# Altium schematic symbol library NodoWifi.SchLib: 3 symbols
Pins are listed as number, name and electrical type; pins without a type are passive.

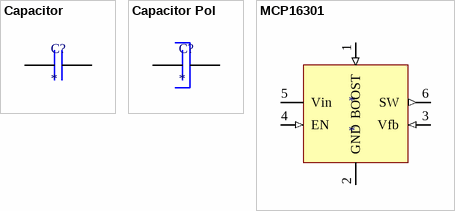
[diagram p0: symbols Capacitor to MCP16301]

## Capacitor
designator C?
Ceramic capacitor
pins: 1, 2

## Capacitor Pol
designator C?
Electrolitic Capacitor
pins: 1 (power), 2 (power)

## MCP16301
designator *
High-Voltage Input Integrated Switch Step-Down Regulator
pins: 1 BOOST (in), 2 GND (power), 3 Vfb (in), 4 EN (in), 5 Vin (power), 6 SW (out)